# Altium footprint library BMS_Devices.PcbLib: 136 footprints (part 6 of 9)
Each footprint in its own frame and in the unit in brackets; x right, y up, seen from the top. Pads: shape width x height; smd on the part's side, far side on the other; paste and mask are expansions set on the pad; w line width, h text height; cw(c..) or ccw(c..) is an arc to the next point about the centre after c.
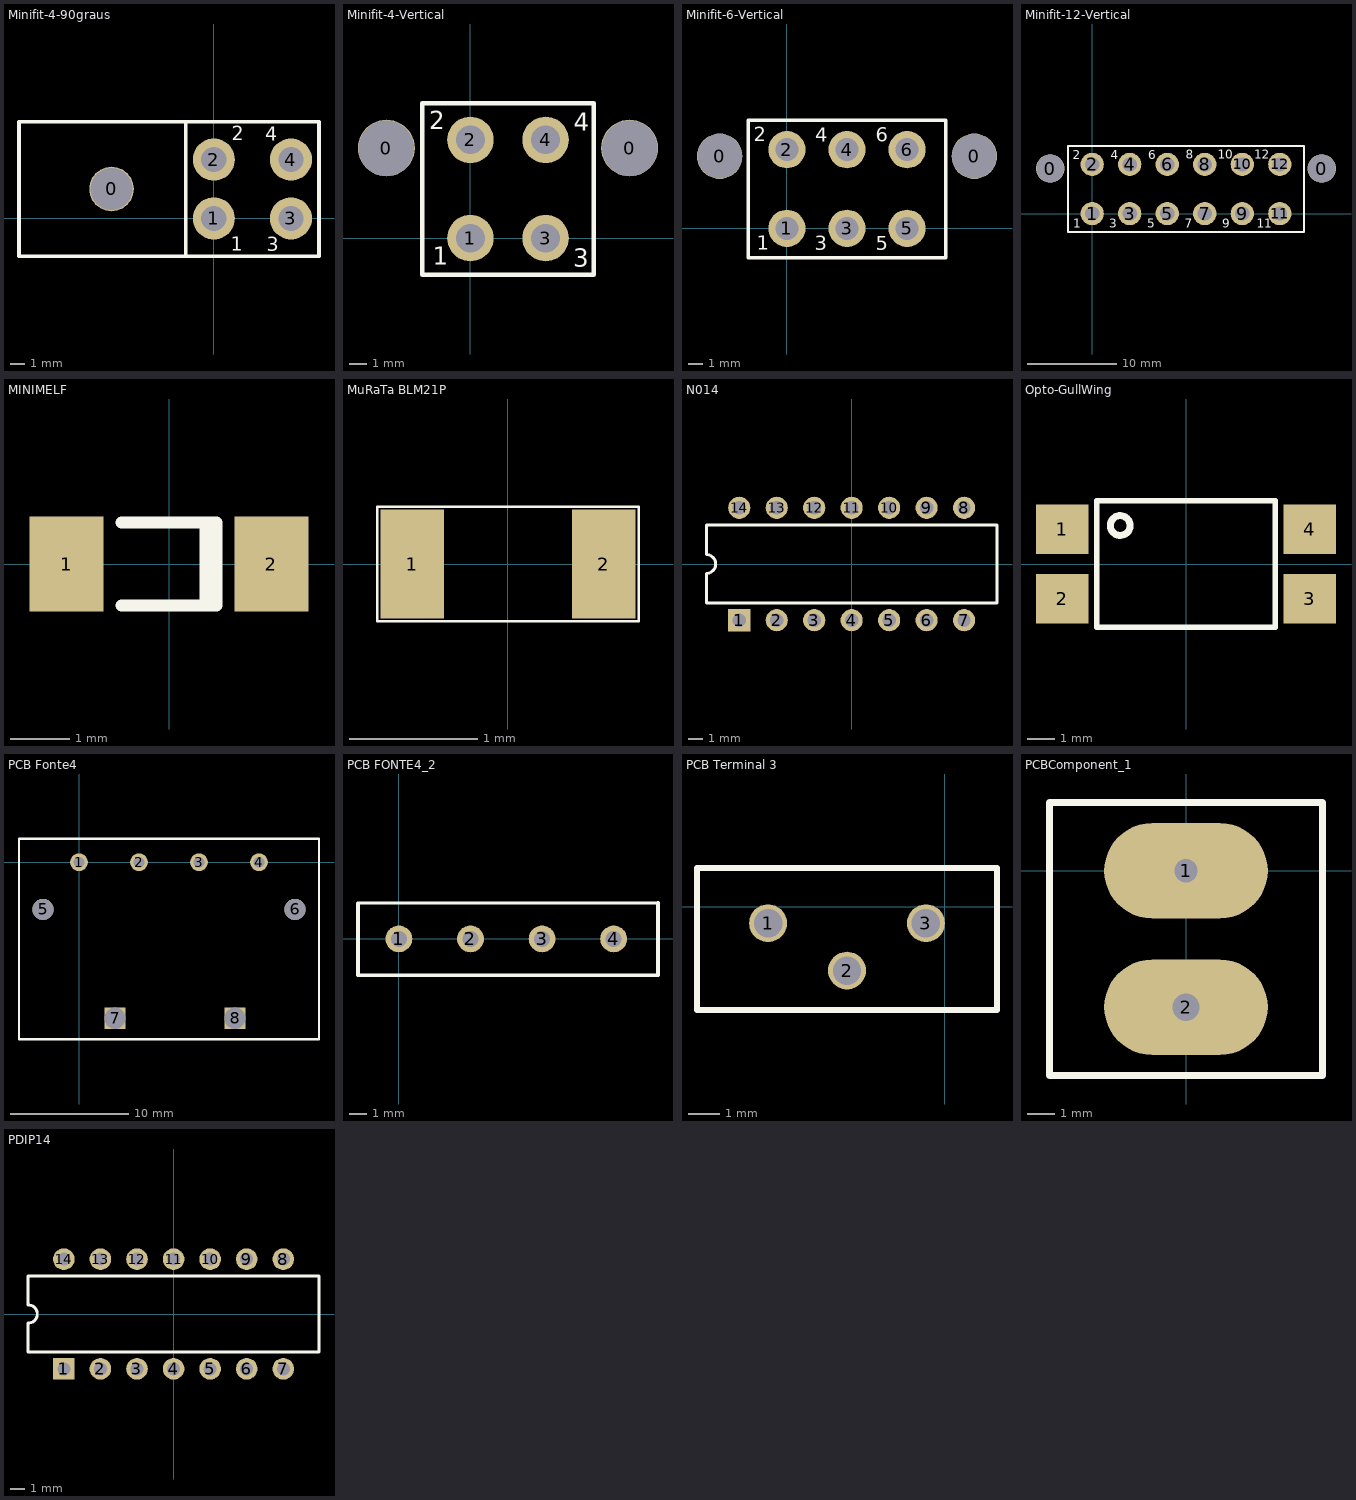
[diagram p5: the footprints below, top view; thin cyan lines are the x and y axes]

## Minifit-4-90graus [mm]
pads (5):
  round 3.175 hole 3: 0(-7.3,2.1)
  round 3 hole 1.8: 1(0,0) 2(0,4.2) 3(5.5,0) 4(5.5,4.2)
Top Overlay:
  lines w0.254: -13.9,-2.7 7.5,-2.7 ; -13.9,-2.667 -13.9,6.782 ; -13.9,6.9 7.5,6.9 ; -2,-2.667 -2,6.807 ; 7.5,-2.591 7.5,6.858
  text "4" at 3.683,5.537 h1
  text "2" at 1.27,5.563 h1
  text "3" at 3.785,-2.337 h1
  text "1" at 1.194,-2.311 h1

## Minifit-4-Vertical [mm]
pads (6):
  round 3.175 hole 3.1: 0(-4.7,5.04) 0(8.9,5.04)
  round 2.6 hole 1.6: 1(0,0) 2(0,5.5) 3(4.2,0) 4(4.2,5.5)
Top Overlay:
  lines w0.254: -2.7,-2.05 6.9,-2.05 6.9,7.55 -2.7,7.55 -2.7,-2.05
  text "4" at 5.766,5.994 h1
  text "1" at -2.108,-1.499 h1
  text "3" at 5.74,-1.6 h1
  text "2" at -2.311,6.096 h1
  text "4" at 3.683,5.537 h1

## Minifit-6-Vertical [mm]
pads (8):
  round 3.175 hole 3.1: 0(-4.7,5.04) 0(13.1,5.04)
  round 2.6 hole 1.6: 1(0,0) 2(0,5.5) 3(4.2,0) 4(4.2,5.5) 5(8.4,0) 6(8.4,5.5)
Top Overlay:
  lines w0.254: -2.7,-2.05 -2.7,7.55 11.1,7.55 11.1,-2.05 -2.7,-2.05
  text "6" at 6.223,6.071 h1
  text "5" at 6.198,-1.524 h1
  text "2" at -2.311,6.096 h1
  text "3" at 1.956,-1.524 h1
  text "1" at -2.108,-1.499 h1
  text "4" at 1.981,6.071 h1

## Minifit-12-Vertical [mm]
pads (14):
  round 3.175 hole 3.1: 0(-4.7,5.04) 0(25.7,5.04)
  round 2.6 hole 1.6: 1(0,0) 2(0,5.5) 3(4.2,0) 4(4.2,5.5) 5(8.4,0) 6(8.4,5.5) 7(12.6,0) 8(12.6,5.5) 9(16.8,0) 10(16.8,5.5) 11(21,0) 12(21,5.5)
Top Overlay:
  lines w0.254: 23.673,7.55 -2.7,7.55 -2.7,-2.05 23.698,-2.05 23.698,7.55
  text "4" at 2.083,6.096 h1
  text "1" at -2.134,-1.575 h1
  text "3" at 1.93,-1.6 h1
  text "2" at -2.184,6.096 h1
  text "5" at 6.172,-1.6 h1
  text "6" at 6.248,6.096 h1
  text "10" at 14.046,6.147 h1
  text "9" at 14.58,-1.6 h1
  text "7" at 10.338,-1.6 h1
  text "8" at 10.465,6.121 h1
  text "11" at 18.415,-1.6 h1
  text "12" at 18.161,6.121 h1

## MINIMELF [mm]
height 1.5
pads (2):
  rect 1.25x1.6 smd: 1(-1.725,0) 2(1.725,0)
Top Overlay:
  lines w0.2: -0.8,-0.7 0.8,-0.7 0.8,0.7 -0.8,0.7 ; 0.61,-0.7 0.61,0.7

## MuRaTa BLM21P [mm]
pads (2):
  rect 0.5x0.85 smd: 1(-0.75,0) 2(0.75,0)
Top Overlay:
  lines w0.02: -1.025,-0.45 1.025,-0.45 1.025,0.45 -1.025,0.45 -1.025,0 -1.025,-0.45

## N014 [mm] "DIP; 14 Leads; Row Spacing 7.62 mm; Pitch 2.54 mm"
height 5.08
pads (14):
  rect 1.5x1.5 hole 0.9: 1(-7.62,-3.81)
  round 1.5 hole 0.9: 2(-5.08,-3.81) 3(-2.54,-3.81) 4(0,-3.81) 5(2.54,-3.81) 6(5.08,-3.81) 7(7.62,-3.81) 8(7.62,3.81) 9(5.08,3.81) 10(2.54,3.81) 11(0,3.81) 12(-2.54,3.81) 13(-5.08,3.81) 14(-7.62,3.81)
Top Overlay:
  lines w0.2: -9.85,-2.65 9.85,-2.65 9.85,2.65 -9.85,2.65 -9.85,0.635 cw(c-9.85,0) -9.85,-0.635 -9.85,-2.65

## Opto-GullWing [mm] "SM Opto; 4 Gull Wing Leads"
height 2.9
pads (4):
  rect 1.9x1.8 smd: 1(-4.5,1.27) 2(-4.5,-1.27) 3(4.5,-1.27) 4(4.5,1.27)
Top Overlay:
  circle w0.254: c-2.391,1.397 r0.359
  lines w0.2: -3.25,-2.3 3.25,-2.3 3.25,2.3 -3.25,2.3 -3.25,-2.3

## PCB Fonte4 [mm]
pads (8):
  round 1.5 hole 0.9: 1(0,0) 2(5.08,0) 3(10.16,0) 4(15.24,0)
  round 1.8 hole 1.8: 5(-3.048,-4) 6(18.288,-4)
  rect 1.8x1.8 hole 1.8: 7(3.048,-13.208) 8(13.208,-13.208)
Top Overlay:
  lines w0.2: -5.08,-15 -5.08,2 20.32,2 20.32,-15 -5.08,-15

## PCB FONTE4_2 [mm]
pads (4):
  round 1.5 hole 0.9: 1(0,0) 2(4,0) 3(8,0) 4(12,0)
Top Overlay:
  lines w0.2: 14.478,2 14.478,-2.04 -2.286,-2.04 -2.286,2 14.478,2.032

## PCB Terminal 3 [mm]
pads (3):
  round 1.2 hole 0.9: 1(-5.588,-0.516) 2(-3.088,-2.016) 3(-0.588,-0.516)
Top Overlay:
  lines w0.2: -7.838,-3.266 -7.838,1.234 1.662,1.234 1.662,-3.266 -7.838,-3.266

## PCBComponent_1 [mm]
pads (2):
  oval 6x3.5 hole 0.85: 1(0,0)
  oval 6x3.5 hole 1: 2(0,-5)
Top Overlay:
  lines w0.254: -5,-7.5 -5,2.5 0,2.5 5,2.5 5,-7.5 -5,-7.5

## PCBComponent_1 - duplicate [mm]

## PCBComponent_1 - duplicate1 [mm]

## PCBComponent_1 - duplicate2 [mm]

## PDIP14 [mm] "DIP; 14 Leads; Row Spacing 7.62 mm; Pitch 2.54 mm"
height 5.33
pads (14):
  rect 1.5x1.5 hole 0.9: 1(-7.62,-3.81)
  round 1.5 hole 0.9: 2(-5.08,-3.81) 3(-2.54,-3.81) 4(0,-3.81) 5(2.54,-3.81) 6(5.08,-3.81) 7(7.62,-3.81) 8(7.62,3.81) 9(5.08,3.81) 10(2.54,3.81) 11(0,3.81) 12(-2.54,3.81) 13(-5.08,3.81) 14(-7.62,3.81)
Top Overlay:
  lines w0.2: -10.1,-2.65 -10.1,-0.635 ccw(c-10.1,0) -10.1,0.635 -10.1,2.65 10.1,2.65 10.1,-2.65 -10.1,-2.65
3D body: height 5.33, standoff 0, extent -10.2,-2.75 10.2,2.75